# EAGLE library part ROOT2 (library thinkmaketest)
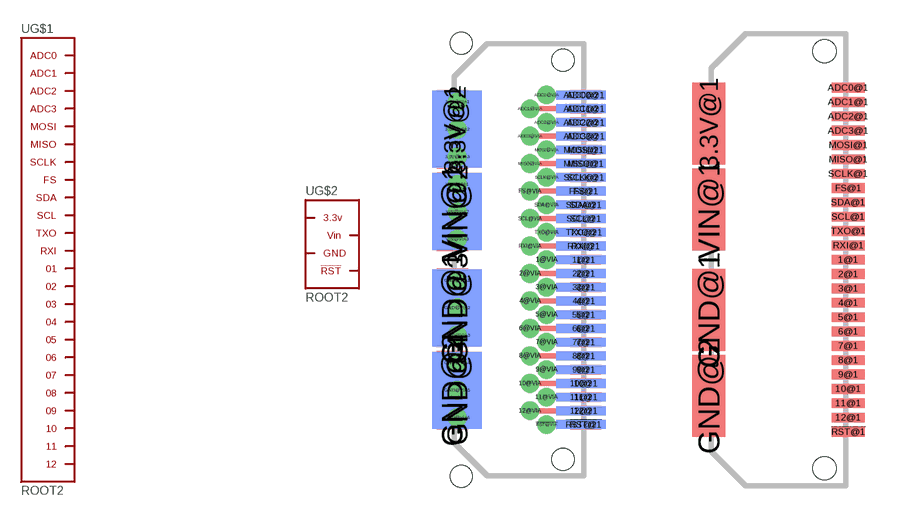
[diagram p0: symbol with the pads of ROOT2.BOTH; footprints ROOT2.BOTH, ROOT2.TOP]

Designator prefix -; gates G$1=ROOT2.HEADER.ALL G$2=ROOT2.HEADER.PWR

## ROOT2_BOTH  [ROOT2.BOTH]
1@1  G$1:01
1@2  G$1:01
1@VIA  G$1:01
2@1  G$1:02
2@2  G$1:02
2@VIA  G$1:02
3.3V@1  G$2:3.3V
3.3V@2  G$2:3.3V
3.3V@VIA1  G$2:3.3V
3.3V@VIA2  G$2:3.3V
3.3V@VIA3  G$2:3.3V
3@1  G$1:03
3@2  G$1:03
3@VIA  G$1:03
4@1  G$1:04
4@2  G$1:04
4@VIA  G$1:04
5@1  G$1:05
5@2  G$1:05
5@VIA  G$1:05
6@1  G$1:06
6@2  G$1:06
6@VIA  G$1:06
7@1  G$1:07
7@2  G$1:07
7@VIA  G$1:07
8@1  G$1:08
8@2  G$1:08
8@VIA  G$1:08
9@1  G$1:09
9@2  G$1:09
9@VIA  G$1:09
10@1  G$1:10
10@2  G$1:10
10@VIA  G$1:10
11@1  G$1:11
11@2  G$1:11
11@VIA  G$1:11
12@1  G$1:12
12@2  G$1:12
12@VIA  G$1:12
!RST@1  G$2:!RST
!RST@2  G$2:!RST
!RST@VIA  G$2:!RST
ADC0@1  G$1:ADC0
ADC0@2  G$1:ADC0
ADC0@VIA  G$1:ADC0
ADC1@1  G$1:ADC1
ADC1@2  G$1:ADC1
ADC1@VIA  G$1:ADC1
ADC2@1  G$1:ADC2
ADC2@2  G$1:ADC2
ADC2@VIA  G$1:ADC2
ADC3@1  G$1:ADC3
ADC3@2  G$1:ADC3
ADC3@VIA  G$1:ADC3
FS@1  G$1:FS
FS@2  G$1:FS
FS@VIA  G$1:FS
GND@1  G$2:GND
GND@2  G$2:GND
GND@3  G$2:GND
GND@4  G$2:GND
GND@VIA1  G$2:GND
GND@VIA2  G$2:GND
GND@VIA3  G$2:GND
GND@VIA4  G$2:GND
GND@VIA5  G$2:GND
GND@VIA6  G$2:GND
MISO@1  G$1:MISO
MISO@2  G$1:MISO
MISO@VIA  G$1:MISO
MOSI@1  G$1:MOSI
MOSI@2  G$1:MOSI
MOSI@VIA  G$1:MOSI
RXI@1  G$1:RXI
RXI@2  G$1:RXI
RXI@VIA  G$1:RXI
SCL@1  G$1:SCL
SCL@2  G$1:SCL
SCL@VIA  G$1:SCL
SCLK@1  G$1:SCLK
SCLK@2  G$1:SCLK
SCLK@VIA  G$1:SCLK
SDA@1  G$1:SDA
SDA@2  G$1:SDA
SDA@VIA  G$1:SDA
TXO@1  G$1:TXO
TXO@2  G$1:TXO
TXO@VIA  G$1:TXO
VIN@1  G$2:VIN
VIN@2  G$2:VIN
VIN@VIA1  G$2:VIN
VIN@VIA2  G$2:VIN
VIN@VIA3  G$2:VIN

## ROOT2_TOP  [ROOT2.TOP]
1@1  G$1:01
2@1  G$1:02
3.3V@1  G$2:3.3V
3@1  G$1:03
4@1  G$1:04
5@1  G$1:05
6@1  G$1:06
7@1  G$1:07
8@1  G$1:08
9@1  G$1:09
10@1  G$1:10
11@1  G$1:11
12@1  G$1:12
!RST@1  G$2:!RST
ADC0@1  G$1:ADC0
ADC1@1  G$1:ADC1
ADC2@1  G$1:ADC2
ADC3@1  G$1:ADC3
FS@1  G$1:FS
GND@1  G$2:GND
GND@2  G$2:GND
MISO@1  G$1:MISO
MOSI@1  G$1:MOSI
RXI@1  G$1:RXI
SCL@1  G$1:SCL
SCLK@1  G$1:SCLK
SDA@1  G$1:SDA
TXO@1  G$1:TXO
VIN@1  G$2:VIN

## Footprint ROOT2.BOTH (pad centres in mm)
smd 1.448 x 0.432: 1@1 7.531,20.32; 2@1 7.531,19.685; 3@1 7.531,19.05; 4@1 7.531,18.415; 5@1 7.531,17.78; 6@1 7.531,17.145; 7@1 7.531,16.51; 8@1 7.531,15.875; 9@1 7.531,15.24; 10@1 7.531,14.605; 11@1 7.531,13.97; 12@1 7.531,13.335; !RST@1 7.531,12.7; ADC0@1 7.525,27.94; ADC1@1 7.531,27.305; ADC2@1 7.531,26.67; ADC3@1 7.531,26.035; FS@1 7.531,23.495; MISO@1 7.531,24.765; MOSI@1 7.531,25.4; RXI@1 7.531,20.955; SCL@1 7.531,22.225; SCLK@1 7.531,24.13; SDA@1 7.531,22.86; TXO@1 7.531,21.59
smd 2.273 x 0.406 bottom: 1@2 7.309,20.32; 2@2 7.309,19.685; 3@2 7.309,19.05; 4@2 7.309,18.415; 5@2 7.309,17.78; 6@2 7.309,17.145; 7@2 7.309,16.51; 8@2 7.309,15.875; 9@2 7.309,15.24; 10@2 7.309,14.605; 11@2 7.309,13.97; 12@2 7.309,13.335; !RST@2 7.309,12.7; ADC0@2 7.309,27.94; ADC1@2 7.309,27.305; ADC2@2 7.309,26.67; ADC3@2 7.309,26.035; FS@2 7.309,23.495; MISO@2 7.309,24.765; MOSI@2 7.309,25.4; RXI@2 7.309,20.955; SCL@2 7.309,22.225; SCLK@2 7.309,24.13; SDA@2 7.309,22.86; TXO@2 7.309,21.59
drill 0.356: 1@VIA 5.715,20.32; 2@VIA 4.953,19.685; 3.3V@VIA1 1.587,27.622; 3.3V@VIA2 1.587,26.352; 3.3V@VIA3 1.587,25.082; 3@VIA 5.715,19.05; 4@VIA 4.953,18.415; 5@VIA 5.715,17.78; 6@VIA 4.953,17.145; 7@VIA 5.715,16.51; 8@VIA 4.953,15.875; 9@VIA 5.715,15.24; 10@VIA 4.953,14.605; 11@VIA 5.715,13.97; 12@VIA 4.953,13.335; !RST@VIA 5.715,12.7; ADC0@VIA 5.715,27.94; ADC1@VIA 4.953,27.305; ADC2@VIA 5.715,26.67; ADC3@VIA 4.953,26.035; FS@VIA 4.953,23.495; GND@VIA1 1.587,19.367; GND@VIA2 1.587,18.098; GND@VIA3 1.587,16.828; GND@VIA4 1.587,15.557; GND@VIA5 1.587,14.287; GND@VIA6 1.587,13.018; MISO@VIA 4.953,24.765; MOSI@VIA 5.715,25.4; RXI@VIA 4.953,20.955; SCL@VIA 4.953,22.225; SCLK@VIA 5.715,24.13; SDA@VIA 5.715,22.86; TXO@VIA 5.715,21.59; VIN@VIA1 1.587,23.812; VIN@VIA2 1.587,22.543; VIN@VIA3 1.587,21.273
smd 1.46 x 3.619: 3.3V@1 1.365,26.352; GND@1 1.365,18.098; GND@2 1.365,14.287; VIN@1 1.365,22.543
smd 2.286 x 3.556 bottom: 3.3V@2 1.587,26.352; GND@3 1.587,18.098; GND@4 1.587,14.287; VIN@2 1.587,22.543
hole 1.016 at 6.477,11.081
hole 1.016 at 6.477,29.559
hole 1.016 at 1.778,10.312
hole 1.016 at 1.778,30.328

## Footprint ROOT2.TOP (pad centres in mm)
smd 1.448 x 0.432: 1@1 7.531,20.32; 2@1 7.531,19.685; 3@1 7.531,19.05; 4@1 7.531,18.415; 5@1 7.531,17.78; 6@1 7.531,17.145; 7@1 7.531,16.51; 8@1 7.531,15.875; 9@1 7.531,15.24; 10@1 7.531,14.605; 11@1 7.531,13.97; 12@1 7.531,13.335; !RST@1 7.531,12.7; ADC0@1 7.525,27.94; ADC1@1 7.531,27.305; ADC2@1 7.531,26.67; ADC3@1 7.531,26.035; FS@1 7.531,23.495; MISO@1 7.531,24.765; MOSI@1 7.531,25.4; RXI@1 7.531,20.955; SCL@1 7.531,22.225; SCLK@1 7.531,24.13; SDA@1 7.531,22.86; TXO@1 7.531,21.59
smd 1.46 x 3.619: 3.3V@1 1.365,26.352; GND@1 1.365,18.098; GND@2 1.365,14.287; VIN@1 1.365,22.543
hole 1.016 at 6.477,11.081
hole 1.016 at 6.477,29.559